# Altium footprint library DO-214AA.PcbLib: 1 footprints
Each footprint in its own frame and in the unit in brackets; x right, y up, seen from the top. Pads: shape width x height; smd on the part's side, far side on the other; paste and mask are expansions set on the pad; w line width, h text height; cw(c..) or ccw(c..) is an arc to the next point about the centre after c.
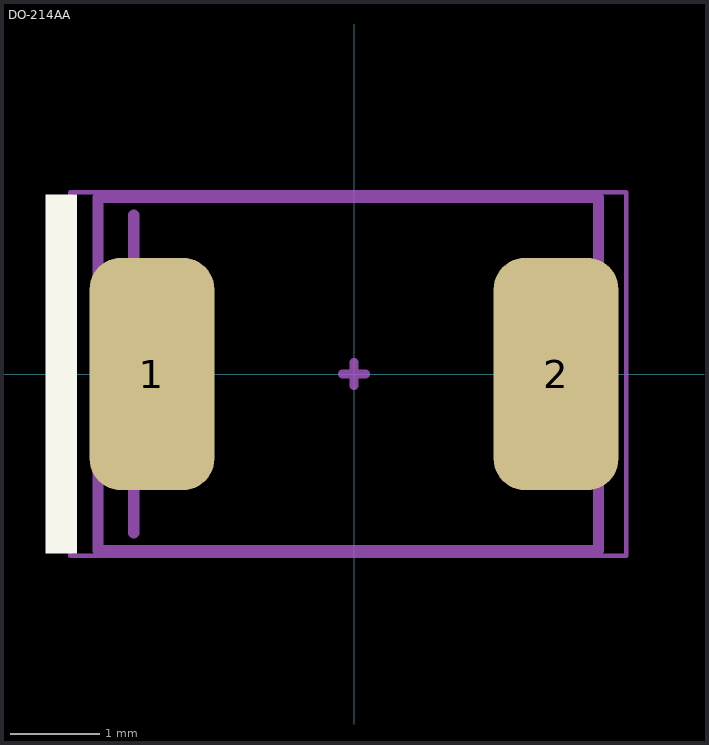
[diagram p0: the footprint, top view; thin cyan lines are the x and y axes]

## DO-214AA [mil] "DO-214AA;SMB"
pads (2):
  rrect50% 55x102.36 smd: 1(-89,0) 2(89,0)
Top Overlay:
  region: -121.95,79 -135.95,79 -135.95,-79 -121.95,-79
Top Assembly:
  lines w5: -97.05,-70 -97.05,70 ; -112.78,77.75 107.7,77.75 107.7,-77.76 -112.78,-77.76 -112.78,77.75 ; -112.78,77.75 -112.78,77.75
Top Courtyard:
  lines w1.97: -125,-80 120,-80 120,80 -125,80 -125,-80
  lines w3.94: -5,0 5,0 ; 0,-5 0,5
3D body "DO-214AA.STEP": height 103.15, standoff 0, extent -112.78,-77.76 107.69,77.75